# EAGLE library part SW_4WAY (library mylib_20130829)
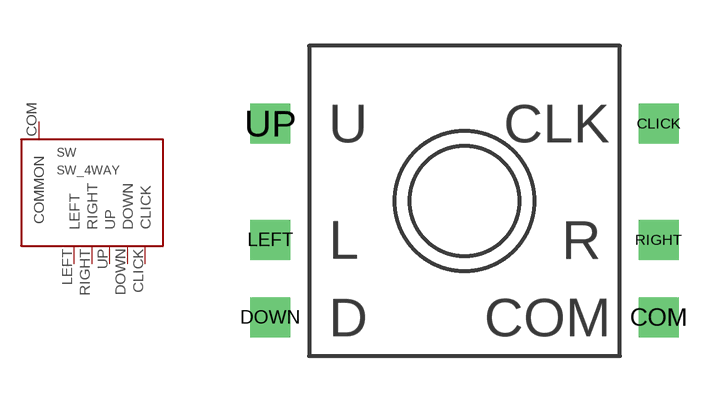
[diagram p61: symbol with the pads of SW_4WAY; footprint SW_4WAY]

Designator prefix SW

## SW_4WAY  [SW_4WAY]
CLICK  CLICK
COM  COMMON
DOWN  DOWN
LEFT  LEFT
RIGHT  RIGHT
UP  UP

## Footprint SW_4WAY (pad centres in mm)
drill 0.8 square: CLICK 12.7,5.08; COM 12.7,-1.27; DOWN 0,-1.27; LEFT 0,1.27; RIGHT 12.7,1.27; UP 0,5.08